# Altium footprint library JS202011SCQN.PcbLib: 1 footprints
Each footprint in its own frame and in the unit in brackets; x right, y up, seen from the top. Pads: shape width x height; smd on the part's side, far side on the other; paste and mask are expansions set on the pad; w line width, h text height; cw(c..) or ccw(c..) is an arc to the next point about the centre after c.
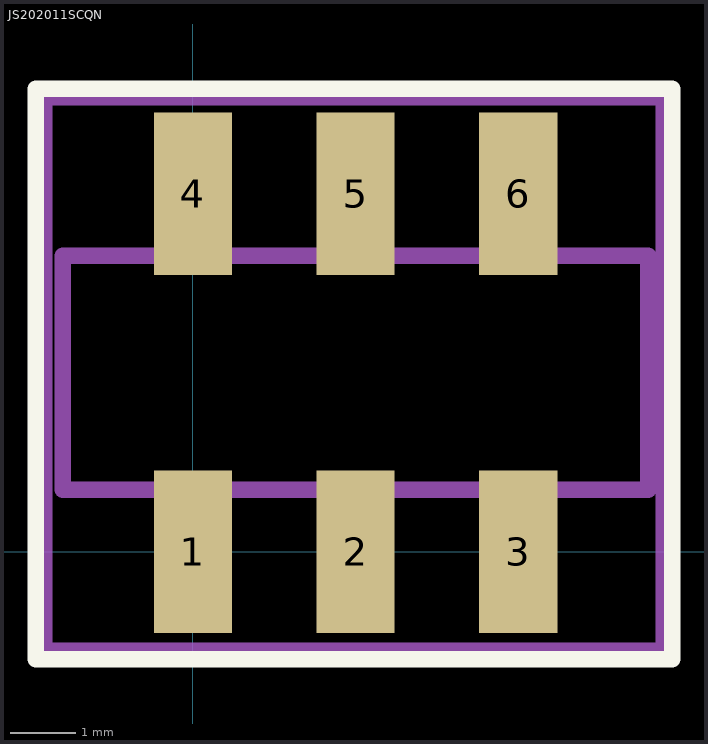
[diagram p0: the footprint, top view; thin cyan lines are the x and y axes]

## JS202011SCQN [mm]
pads (6):
  rect 1.2x2.5 smd: 1(0,0) 2(2.5,0) 3(5,0) 4(0,5.5) 5(2.5,5.5) 6(5,5.5)
Top Overlay:
  lines w0.254: -2.413,-1.651 -2.413,7.112 7.366,7.112 7.366,-1.651 -2.413,-1.651
Mechanical 1:
  lines w0.254: -2,0.95 -2,4.55 7,4.55 7,0.95 -2,0.95
  text ".Designator" at -0.254,2.159 h1.52
Mechanical 15:
  lines w0.254: -2.286,-1.524 -2.286,6.985 7.239,6.985 7.239,-1.524 -2.286,-1.524
3D body: height 3.5, standoff 0, extent -2,0.95 7,4.55
3D body: height 5.5, standoff 0, extent 0.762,2.286 2.032,3.302